# Altium schematic symbol library MCP73123.SchLib: 1 symbol
Pins are listed as number, name and electrical type; pins without a type are passive.

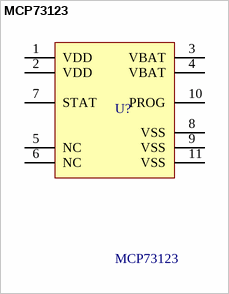
[diagram p0: symbol MCP73123]

## MCP73123
designator U?
Lithium Iron Phosphate (LiFePO4) Battery Charge  Management Controller
pins: 1 VDD (power), 2 VDD (power), 3 VBAT (power), 4 VBAT (power), 5 NC (oc), 6 NC (oc), 7 STAT (oc), 8 VSS (power), 9 VSS (power), 10 PROG (power), 11 VSS (power)